# Altium footprint library H06.24-1B_1.PcbLib: 1 footprints
Each footprint in its own frame and in the unit in brackets; x right, y up, seen from the top. Pads: shape width x height; smd on the part's side, far side on the other; paste and mask are expansions set on the pad; w line width, h text height; cw(c..) or ccw(c..) is an arc to the next point about the centre after c.
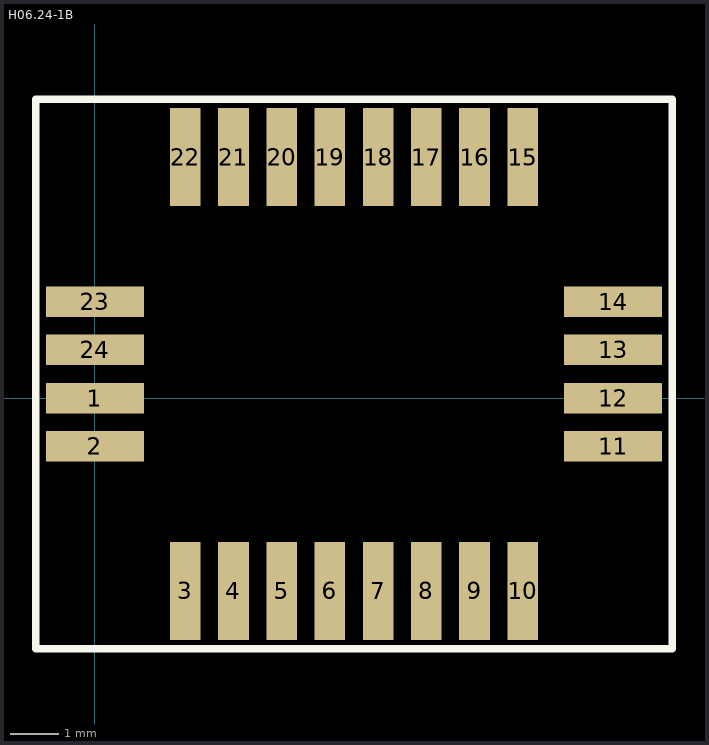
[diagram p0: the footprint, top view; thin cyan lines are the x and y axes]

## H06.24-1B [mm]
pads (24):
  rect 2.032x0.635 smd: 1(0,0) 2(0,-1) 11(10.75,-1) 12(10.75,0) 13(10.75,1) 14(10.75,2) 23(0,2) 24(0,1)
  rect 0.635x2.032 smd: 3(1.875,-4) 4(2.875,-4) 5(3.875,-4) 6(4.875,-4) 7(5.875,-4) 8(6.875,-4) 9(7.875,-4) 10(8.875,-4) 15(8.875,5) 16(7.875,5) 17(6.875,5) 18(5.875,5) 19(4.875,5) 20(3.875,5) 21(2.875,5) 22(1.875,5)
TopOverlay:
  lines w0.152: -1.225,-5.2 -1.225,6.2 11.975,6.2 11.975,-5.2 -1.225,-5.2